# EAGLE library part FT232H (library MainBoard)
FTDI FT232H Single channel hi-speed USB to multi-purpose UART/FIFO IC Source: http://www.ftdichip.com/Support/Documents/DataSheets/ICs/DS_FT232H.pdf
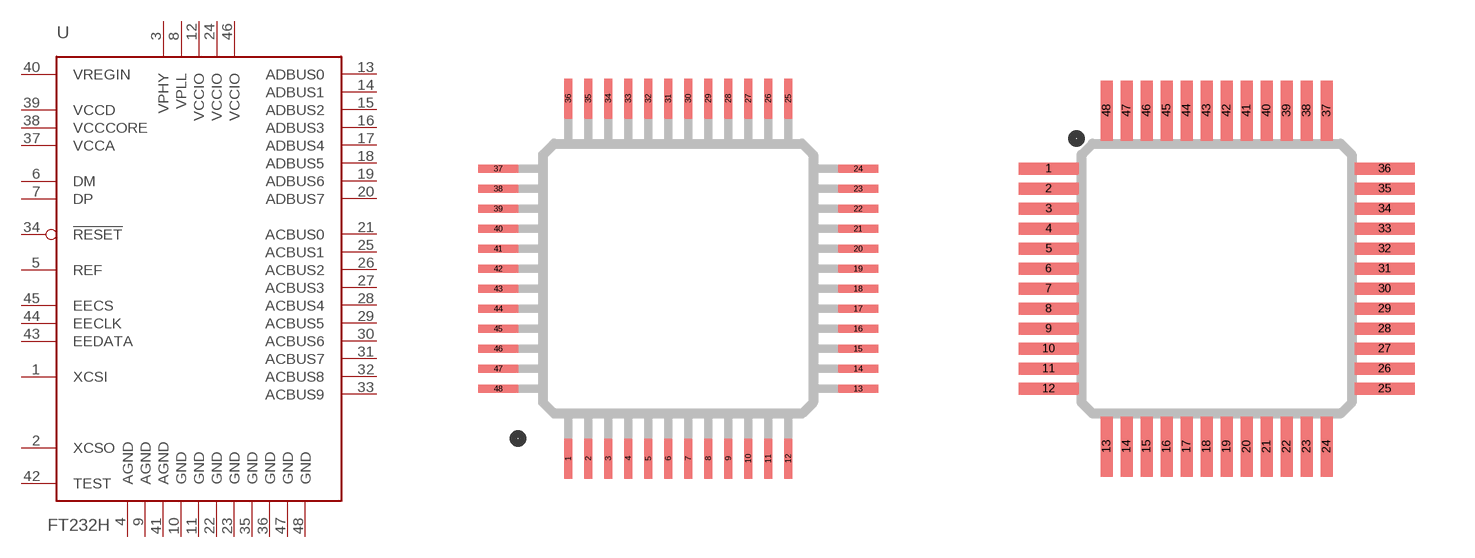
[diagram p7: symbol with the pads of TQFP-48; footprints TQFP-48, LQFP-48]

Designator prefix U

## FT232HT (DIGI-KEY#: 768-1101-1-ND; MF: FTDI; MPN: FT232HL)  [TQFP-48]
1  XCSI  in
2  XCSO  out
3  VPHY  pwr
4  AGND  pwr
5  REF  in
6  DM
7  DP
8  VPLL  pwr
9  AGND  pwr
10  GND  pwr
11  GND  pwr
12  VCCIO  pwr
13  ADBUS0
14  ADBUS1
15  ADBUS2
16  ADBUS3
17  ADBUS4
18  ADBUS5
19  ADBUS6
20  ADBUS7
21  ACBUS0
22  GND  pwr
23  GND  pwr
24  VCCIO  pwr
25  ACBUS1
26  ACBUS2
27  ACBUS3
28  ACBUS4
29  ACBUS5
30  ACBUS6
31  ACBUS7
32  ACBUS8
33  ACBUS9
34  !RESET  in
35  GND  pwr
36  GND  pwr
37  VCCA  pwr
38  VCCCORE  pwr
39  VCCD  pwr
40  VREGIN  pwr
41  AGND  pwr
42  TEST
43  EEDATA
44  EECLK  out
45  EECS  out
46  VCCIO  pwr
47  GND  pwr
48  GND  pwr

## FT232HL (DIGI-KEY#: 768-1101-1-ND; MF: FTDI; MOUSER#: 895-FT232HL-REEL; MPN: 768-1101-1-ND)  [LQFP-48]
Pads as for TQFP-48

## Footprint TQFP-48 (pad centres in mm)
TQFP-48 package Notes: This package layout has not yet been checked against the ??? standard yet. Pin widths need to be revised Source: http://www.ftdichip.com/Support/Documents/DataSheets/ICs/DS_FT232H.pdf
smd 0.2 x 1: 1 -2.75,-4.5; 2 -2.25,-4.5; 3 -1.75,-4.5; 4 -1.25,-4.5; 5 -0.75,-4.5; 6 -0.25,-4.5; 7 0.25,-4.5; 8 0.75,-4.5; 9 1.25,-4.5; 10 1.75,-4.5; 11 2.25,-4.5; 12 2.75,-4.5; 25 2.75,4.5; 26 2.25,4.5; 27 1.75,4.5; 28 1.25,4.5; 29 0.75,4.5; 30 0.25,4.5; 31 -0.25,4.5; 32 -0.75,4.5; 33 -1.25,4.5; 34 -1.75,4.5; 35 -2.25,4.5; 36 -2.75,4.5
smd 1 x 0.2: 13 4.5,-2.75; 14 4.5,-2.25; 15 4.5,-1.75; 16 4.5,-1.25; 17 4.5,-0.75; 18 4.5,-0.25; 19 4.5,0.25; 20 4.5,0.75; 21 4.5,1.25; 22 4.5,1.75; 23 4.5,2.25; 24 4.5,2.75; 37 -4.5,2.75; 38 -4.5,2.25; 39 -4.5,1.75; 40 -4.5,1.25; 41 -4.5,0.75; 42 -4.5,0.25; 43 -4.5,-0.25; 44 -4.5,-0.75; 45 -4.5,-1.25; 46 -4.5,-1.75; 47 -4.5,-2.25; 48 -4.5,-2.75

## Footprint LQFP-48 (pad centres in mm)
LQFP-48 48-pin LQFP package based on the IPC-7351 standard.
smd 1.5 x 0.3: 1 -4.2,2.75; 2 -4.2,2.25; 3 -4.2,1.75; 4 -4.2,1.25; 5 -4.2,0.75; 6 -4.2,0.25; 7 -4.2,-0.25; 8 -4.2,-0.75; 9 -4.2,-1.25; 10 -4.2,-1.75; 11 -4.2,-2.25; 12 -4.2,-2.75; 25 4.2,-2.75; 26 4.2,-2.25; 27 4.2,-1.75; 28 4.2,-1.25; 29 4.2,-0.75; 30 4.2,-0.25; 31 4.2,0.25; 32 4.2,0.75; 33 4.2,1.25; 34 4.2,1.75; 35 4.2,2.25; 36 4.2,2.75
smd 0.3 x 1.5: 13 -2.75,-4.2; 14 -2.25,-4.2; 15 -1.75,-4.2; 16 -1.25,-4.2; 17 -0.75,-4.2; 18 -0.25,-4.2; 19 0.25,-4.2; 20 0.75,-4.2; 21 1.25,-4.2; 22 1.75,-4.2; 23 2.25,-4.2; 24 2.75,-4.2; 37 2.75,4.2; 38 2.25,4.2; 39 1.75,4.2; 40 1.25,4.2; 41 0.75,4.2; 42 0.25,4.2; 43 -0.25,4.2; 44 -0.75,4.2; 45 -1.25,4.2; 46 -1.75,4.2; 47 -2.25,4.2; 48 -2.75,4.2